# Altium schematic symbol library IC TTL 74xx.SchLib: 34 symbols
Pins are listed as number, name and electrical type; pins without a type are passive.

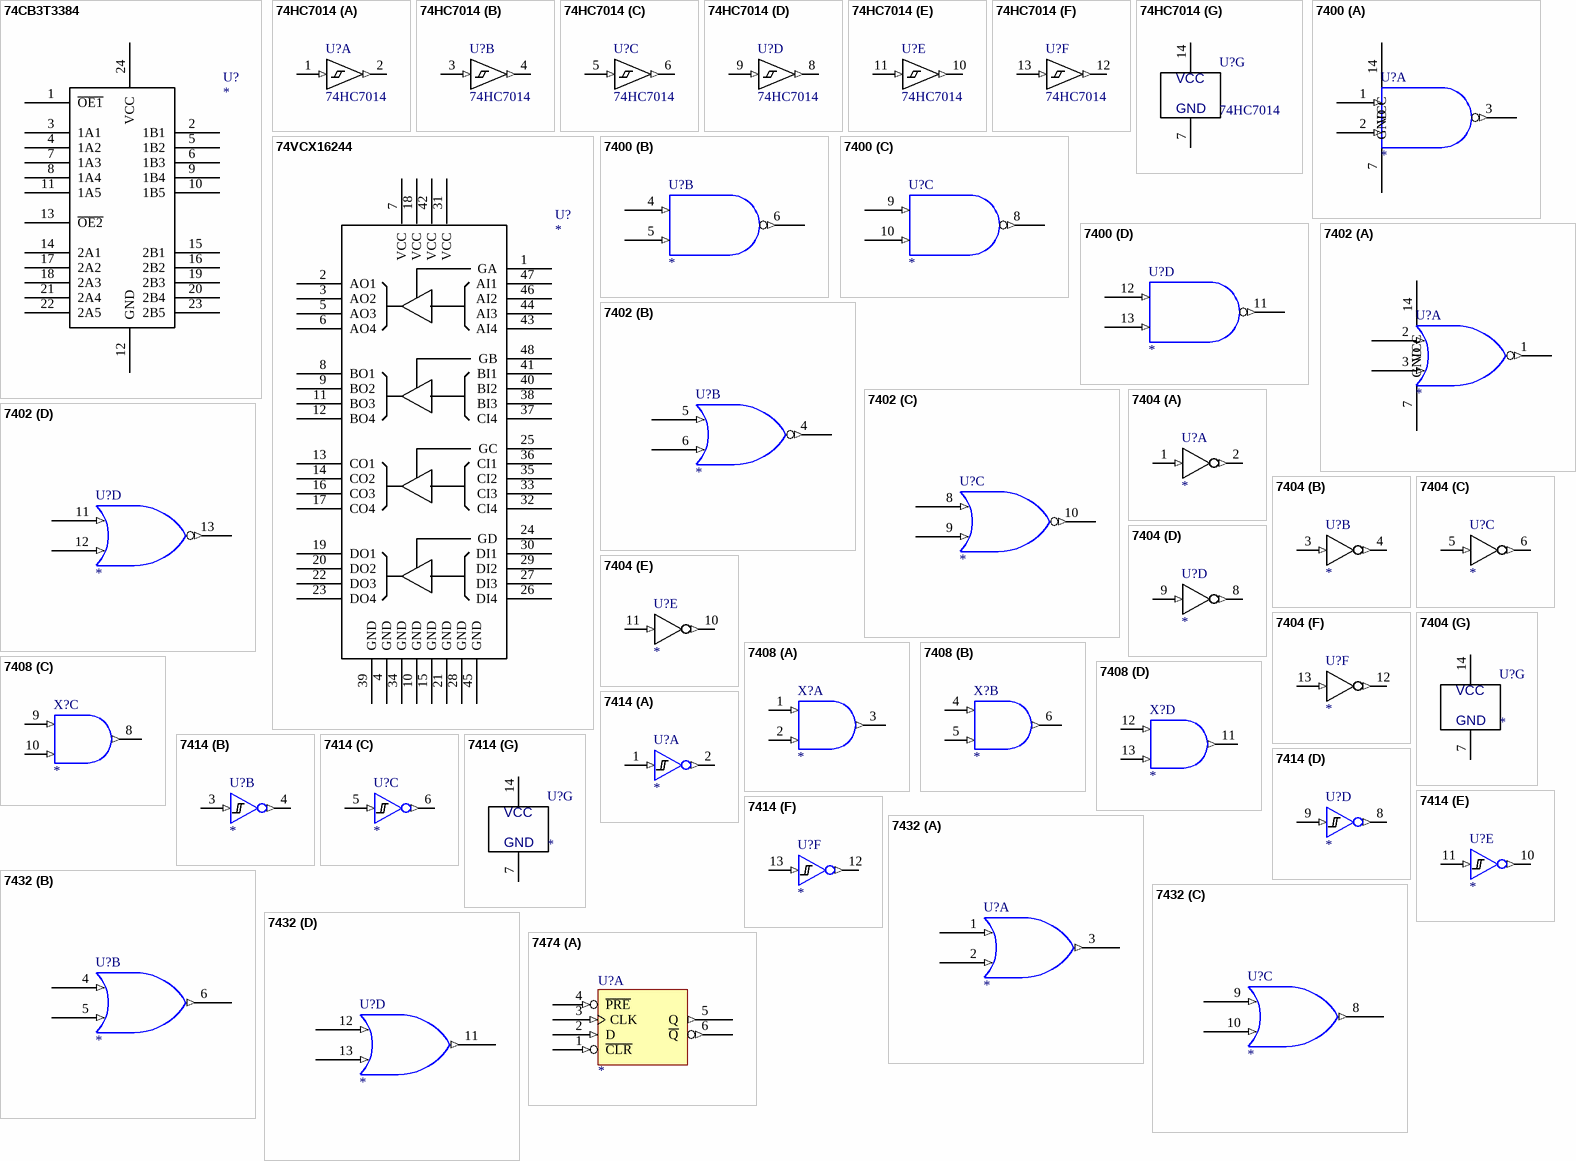
[diagram p0: symbols 74CB3T3384 to 7474]

## 74CB3T3384
designator U?
74CB3T3384 LEVEL SHIFTING BUFFER
footprint SO24W
pins: 1 ~{OE1}, 2 1B1, 3 1A1, 4 1A2, 5 1B2, 6 1B3, 7 1A3, 8 1A4, 9 1B4, 10 1B5, 11 1A5, 12 GND, 13 ~{OE2}, 14 2A1, 15 2B1, 16 2B2, 17 2A2, 18 2A3, 19 2B3, 20 2B4, 21 2A4, 22 2A5, 23 2B5, 24 VCC

## 74HC7014
designator U?
IC, Hex Schmitttrigger Buffer, SO-14
footprint SO14
part A pins: 1 A (in), 2 Y (out)
part B pins: 3 A (in), 4 Y (out)
part C pins: 5 A (in), 6 Y (out)
part D pins: 8 Y (out), 9 A (in)
part E pins: 10 Y (out), 11 A (in)
part F pins: 12 Y (out), 13 A (in)
part G pins: 7 GND, 14 VCC

## 74VCX16244
designator U?
footprint TSSOP48
pins: 1 GA, 2 AO1, 3 AO2, 4 GND, 5 AO3, 6 AO4, 7 VCC, 8 BO1, 9 BO2, 10 GND, 11 BO3, 12 BO4, 13 CO1, 14 CO2, 15 GND, 16 CO3, 17 CO4, 18 VCC, 19 DO1, 20 DO2, 21 GND, 22 DO3, 23 DO4, 24 GD, 25 GC, 26 DI4, 27 DI3, 28 GND, 29 DI2, 30 DI1, 31 VCC, 32 CI4, 33 CI3, 34 GND, 35 CI2, 36 CI1, 37 CI4, 38 BI3, 39 GND, 40 BI2, 41 BI1, 42 VCC, 43 AI4, 44 AI3, 45 GND, 46 AI2, 47 AI1, 48 GB

## 7400
designator U?
Quad 2-IN Pos Nand G
footprint SO14
part A pins: 1 (in), 2 (in), 3 (out), 7 GND (power), 14 VCC (power)
part B pins: 4 (in), 5 (in), 6 (out)
part C pins: 8 (out), 9 (in), 10 (in)
part D pins: 11 (out), 12 (in), 13 (in)

## 7402
designator U?
Quad 2-IN Pos Nor G
footprint SO14
part A pins: 1 (out), 2 (in), 3 (in), 7 GND (power), 14 VCC (power)
part B pins: 4 (out), 5 (in), 6 (in)
part C pins: 8 (in), 9 (in), 10 (out)
part D pins: 11 (in), 12 (in), 13 (out)

## 7404
designator U?
IC, M74HC04M, Hex Inverter, SO-14; Text Field1: ST; Text Field2: M74HC04M1R; Text Field3: Mouser; Text Field4: 511-M74HC04M; Text Field6: .22; Text Field5: SO-14; NI?: *; O?: *; Section:: *
footprint SO14
part A pins: 1 A (in), 2 Y (out)
part B pins: 3 A (in), 4 Y (out)
part C pins: 5 A (in), 6 Y (out)
part D pins: 8 Y (out), 9 A (in)
part E pins: 10 Y (out), 11 A (in)
part F pins: 12 Y (out), 13 A (in)
part G pins: 7 GND, 14 VCC

## 7408
designator X?
Quadruple 2-Input Positive-AND Gate
footprint SO14
part A pins: 1 A (in), 2 B (in), 3 Y (out), 7 GND (power) hidden to GND, 14 VCC (power) hidden to VCC
part B pins: 4 A (in), 5 B (in), 6 Y (out)
part C pins: 8 Y (out), 9 A (in), 10 B (in)
part D pins: 11 Y (out), 12 A (in), 13 B (in)

## 7414
designator U?
IC, M74HC04M, Hex Inverter, SO-14; Text Field1: ST; Text Field2: M74HC04M1R; Text Field3: Mouser; Text Field4: 511-M74HC04M; Text Field6: .22; Text Field5: SO-14; NI?: *; O?: *; Section:: *
footprint SO14
part A pins: 1 A (in), 2 Y (out)
part B pins: 3 A (in), 4 Y (out)
part C pins: 5 A (in), 6 Y (out)
part D pins: 8 Y (out), 9 A (in)
part E pins: 10 Y (out), 11 A (in)
part F pins: 12 Y (out), 13 A (in)
part G pins: 7 GND, 14 VCC

## 7432
designator U?
Quad 2-IN Pos Or G
footprint SO14
part A pins: 1 (in), 2 (in), 3 (out), 7 GND (power) hidden to GND, 14 VCC (power) hidden to VCC
part B pins: 4 (in), 5 (in), 6 (out)
part C pins: 8 (out), 9 (in), 10 (in)
part D pins: 11 (out), 12 (in), 13 (in)

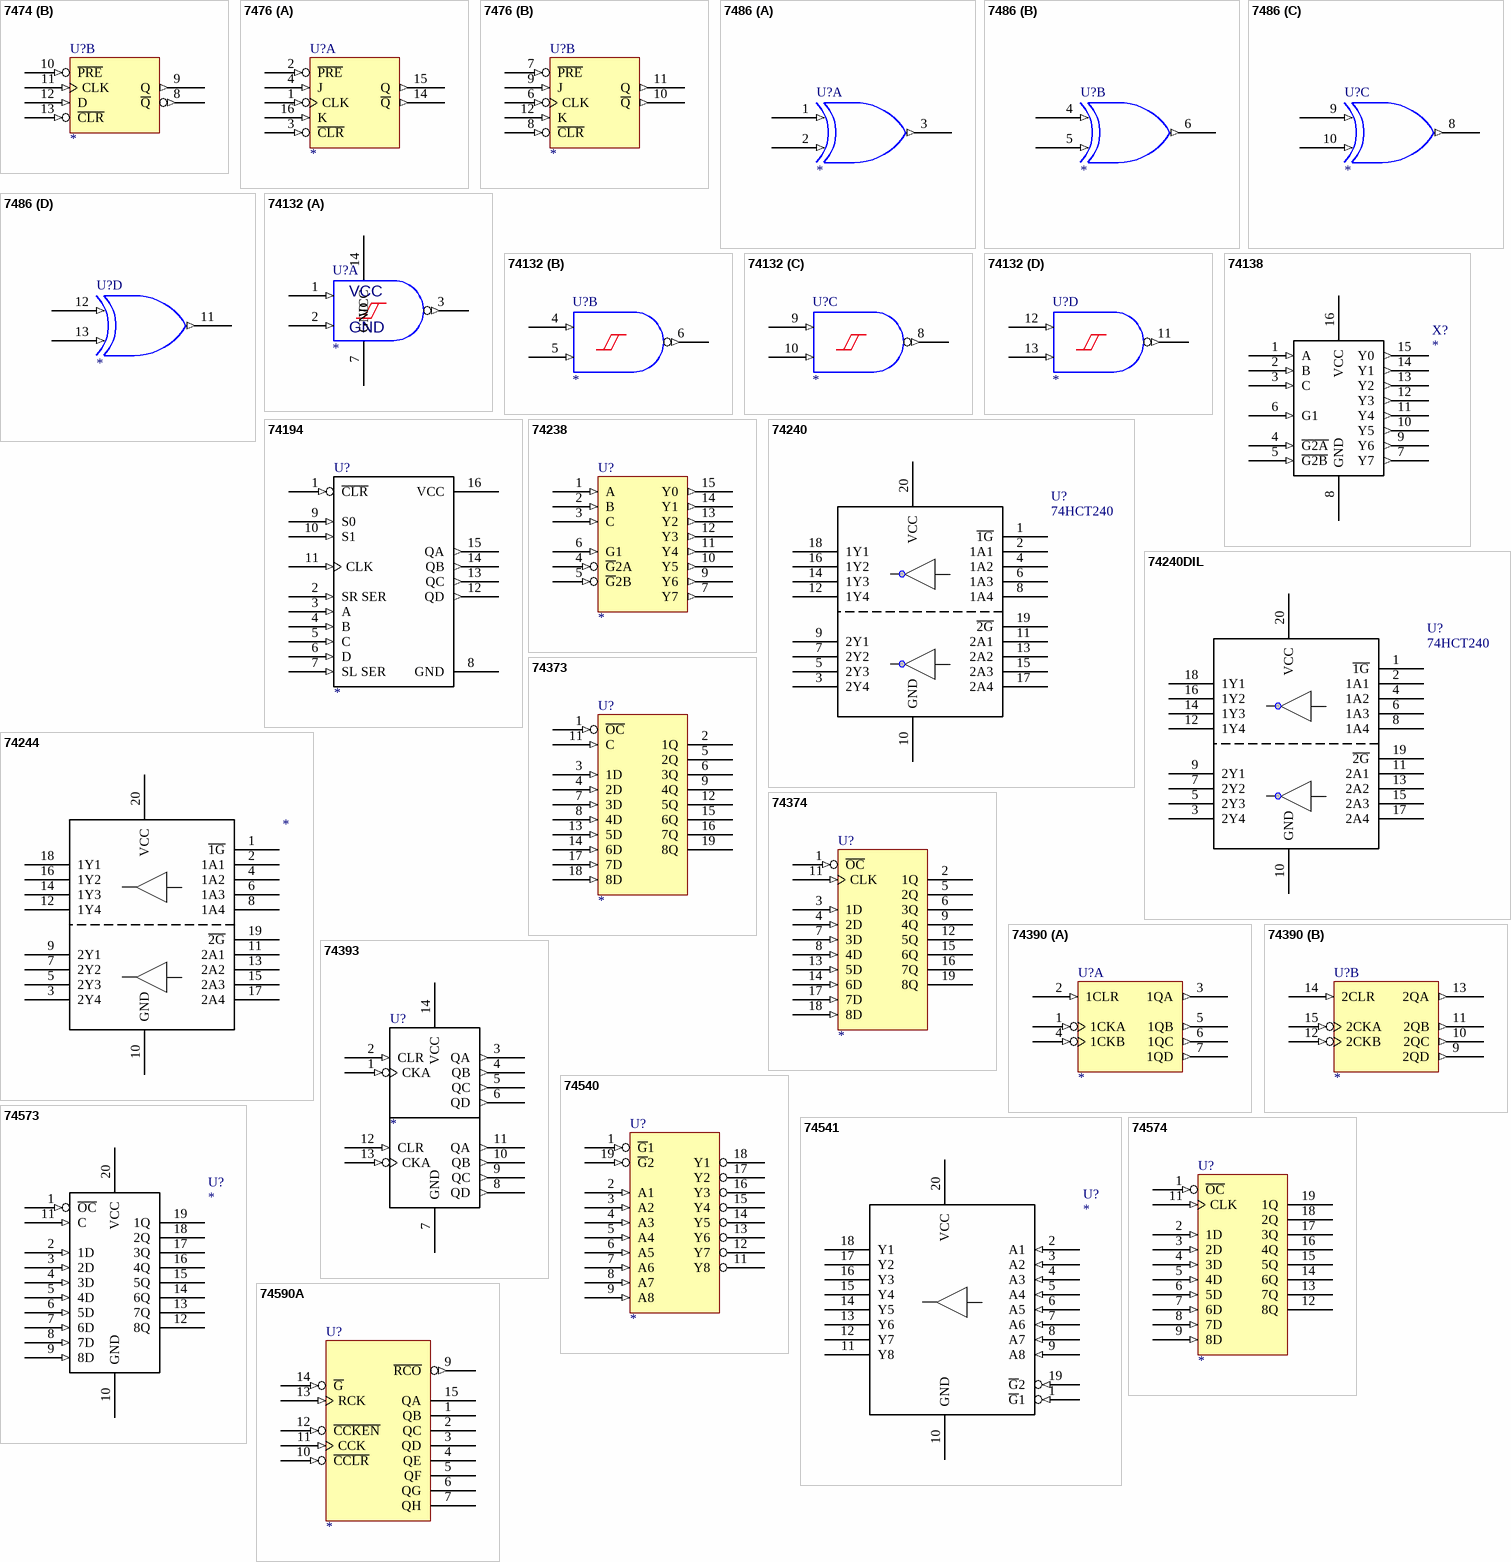
[diagram p1: symbols 7474 to 74590A]

## 7474
designator U?
DUAL D PET FF RS CR
footprint SO14
part A pins: 1 ~{CLR} (in), 2 D (in), 3 CLK (in), 4 ~{PRE} (in), 5 Q (out), 6 ~{Q} (out), 7 GND (power) hidden to GND, 14 VCC (power) hidden to VCC
part B pins: 8 ~{Q} (out), 9 Q (out), 10 ~{PRE} (in), 11 CLK (in), 12 D (in), 13 ~{CLR} (in)

## 7476
designator U?
DUAL J-K NET FF RS CR
footprint SO16
part A pins: 1 CLK (in), 2 ~{PRE} (in), 3 ~{CLR} (in), 4 J (in), 5 VCC (power) hidden to VCC, 13 GND (power) hidden to GND, 14 ~{Q} (out), 15 Q (out), 16 K (in)
part B pins: 6 CLK (in), 7 ~{PRE} (in), 8 ~{CLR} (in), 9 J (in), 10 ~{Q} (out), 11 Q (out), 12 K (in)

## 7486
designator U?
QUAD 2-IN XOR  G
footprint SO14
part A pins: 1 (in), 2 (in), 3 (out), 7 GND (power) hidden to GND, 14 VCC (power) hidden to VCC
part B pins: 4 (in), 5 (in), 6 (out)
part C pins: 8 (out), 9 (in), 10 (in)
part D pins: 11 (out), 12 (in), 13 (in)

## 74132
designator U?
QUAD 2-IN POS NAND SCH
footprint SO14
part A pins: 1 (in), 2 (in), 3 (out), 7 GND (power), 14 VCC (power)
part B pins: 4 (in), 5 (in), 6 (out)
part C pins: 8 (out), 9 (in), 10 (in)
part D pins: 11 (out), 12 (in), 13 (in)

## 74138
designator X?
3-Line to 8-Line Decoders/Demultiplexers
footprint SO16
pins: 1 A (in), 2 B (in), 3 C (in), 4 ~{G2A} (in), 5 ~{G2B} (in), 6 G1 (in), 7 Y7 (out), 8 GND (power), 9 Y6 (out), 10 Y5 (out), 11 Y4 (out), 12 Y3 (out), 13 Y2 (out), 14 Y1 (out), 15 Y0 (out), 16 VCC (power)

## 74194
designator U?
4-BIT BIDIRECTIONAL UNIVERSAL SFT REG
footprint SO16
pins: 1 ~{CLR} (in), 2 SR SER (in), 3 A (in), 4 B (in), 5 C (in), 6 D (in), 7 SL SER (in), 8 GND (power), 9 S0 (in), 10 S1 (in), 11 CLK (in), 12 QD (out), 13 QC (out), 14 QB (out), 15 QA (out), 16 VCC (power)
1 alternate drawing of the same symbol

## 74238
designator U?
3-8LINE DEC/DEMUL
footprint SO16
pins: 1 A (in), 2 B (in), 3 C (in), 4 ~{G}2A (in), 5 ~{G}2B (in), 6 G1 (in), 7 Y7 (out), 8 GND (power) hidden to GND, 9 Y6 (out), 10 Y5 (out), 11 Y4 (out), 12 Y3 (out), 13 Y2 (out), 14 Y1 (out), 15 Y0 (out), 16 VCC (power) hidden to VCC
1 alternate drawing of the same symbol

## 74240
designator U?, comment 74HCT240
74240
footprint SO20W
pins: 1 ~{1G}, 2 1A1, 3 2Y4, 4 1A2, 5 2Y3, 6 1A3, 7 2Y2, 8 1A4, 9 2Y1, 10 GND, 11 2A1, 12 1Y4, 13 2A2, 14 1Y3, 15 2A3, 16 1Y2, 17 2A4, 18 1Y1, 19 ~{2G}, 20 VCC

## 74240DIL
designator U?, comment 74HCT240
74240
footprint DIP20
pins: 1 ~{1G}, 2 1A1, 3 2Y4, 4 1A2, 5 2Y3, 6 1A3, 7 2Y2, 8 1A4, 9 2Y1, 10 GND, 11 2A1, 12 1Y4, 13 2A2, 14 1Y3, 15 2A3, 16 1Y2, 17 2A4, 18 1Y1, 19 ~{2G}, 20 VCC

## 74244
designator ?
footprint SO20W
pins: 1 ~{1G}, 2 1A1, 3 2Y4, 4 1A2, 5 2Y3, 6 1A3, 7 2Y2, 8 1A4, 9 2Y1, 10 GND, 11 2A1, 12 1Y4, 13 2A2, 14 1Y3, 15 2A3, 16 1Y2, 17 2A4, 18 1Y1, 19 ~{2G}, 20 VCC

## 74373
designator U?
OCTAL TRANSPARENT LCH
footprint SO20W
pins: 1 ~{OC} (in), 2 1Q (hiz), 3 1D (in), 4 2D (in), 5 2Q (hiz), 6 3Q (hiz), 7 3D (in), 8 4D (in), 9 4Q (hiz), 10 GND (power) hidden to GND, 11 C (in), 12 5Q (hiz), 13 5D (in), 14 6D (in), 15 6Q (hiz), 16 7Q (hiz), 17 7D (in), 18 8D (in), 19 8Q (hiz), 20 VCC (power) hidden to VCC
1 alternate drawing of the same symbol

## 74374
designator U?
OCTAL  D-TYPE EDGE-TRIGGERED FF 3SO
footprint SO20W
pins: 1 ~{OC} (in), 2 1Q (hiz), 3 1D (in), 4 2D (in), 5 2Q (hiz), 6 3Q (hiz), 7 3D (in), 8 4D (in), 9 4Q (hiz), 10 GND (power) hidden to GND, 11 CLK (in), 12 5Q (hiz), 13 5D (in), 14 6D (in), 15 6Q (hiz), 16 7Q (hiz), 17 7D (in), 18 8D (in), 19 8Q (hiz), 20 VCC (power) hidden to VCC
1 alternate drawing of the same symbol

## 74390
designator U?
DUAL 4-BIT AND BIN CNT
footprint SO16
part A pins: 1 1CKA (in), 2 1CLR (in), 3 1QA (out), 4 1CKB (in), 5 1QB (out), 6 1QC (out), 7 1QD (out), 8 GND (power) hidden to GND, 16 VCC (power) hidden to VCC
part B pins: 9 2QD (out), 10 2QC (out), 11 2QB (out), 12 2CKB (in), 13 2QA (out), 14 2CLR (in), 15 2CKA (in)

## 74393
designator U?
DUAL 4-BIT AND BIN CNT
footprint SO14
pins: 1 CKA (in), 2 CLR (in), 3 QA (out), 4 QB (out), 5 QC (out), 6 QD (out), 7 GND (power), 8 QD (out), 9 QC (out), 10 QB (out), 11 QA (out), 12 CLR (in), 13 CKA (in), 14 VCC (power)

## 74540
designator U?
OCTAL BUF AND LINE DRV 3SO
footprint SO20W
pins: 1 ~{G}1 (in), 2 A1 (in), 3 A2 (in), 4 A3 (in), 5 A4 (in), 6 A5 (in), 7 A6 (in), 8 A7 (in), 9 A8 (in), 10 GND (power) hidden to GND, 11 Y8 (hiz), 12 Y7 (hiz), 13 Y6 (hiz), 14 Y5 (hiz), 15 Y4 (hiz), 16 Y3 (hiz), 17 Y2 (hiz), 18 Y1 (hiz), 19 ~{G}2 (in), 20 VCC (power) hidden to VCC
1 alternate drawing of the same symbol

## 74541
designator U?
OCTAL BUF AND LINE DRV 3SO
footprint SO20W
pins: 1 ~{G}1 (in), 2 A1 (in), 3 A2 (in), 4 A3 (in), 5 A4 (in), 6 A5 (in), 7 A6 (in), 8 A7 (in), 9 A8 (in), 10 GND, 11 Y8 (hiz), 12 Y7 (hiz), 13 Y6 (hiz), 14 Y5 (hiz), 15 Y4 (hiz), 16 Y3 (hiz), 17 Y2 (hiz), 18 Y1 (hiz), 19 ~{G}2 (in), 20 VCC
1 alternate drawing of the same symbol

## 74573
designator U?
OCTAL D-TYPE TRANSPARENT LCH 3SO
footprint SO20W
pins: 1 ~{OC} (in), 2 1D (in), 3 2D (in), 4 3D (in), 5 4D (in), 6 5D (in), 7 6D (in), 8 7D (in), 9 8D (in), 10 GND (power), 11 C (in), 12 8Q (hiz), 13 7Q (hiz), 14 6Q (hiz), 15 5Q (hiz), 16 4Q (hiz), 17 3Q (hiz), 18 2Q (hiz), 19 1Q (hiz), 20 VCC (power)
1 alternate drawing of the same symbol

## 74574
designator U?
OCTAL D-TYPE EDGE-TRIGGERED FF 3SO
footprint SO20W
pins: 1 ~{OC} (in), 2 1D (in), 3 2D (in), 4 3D (in), 5 4D (in), 6 5D (in), 7 6D (in), 8 7D (in), 9 8D (in), 10 GND (power) hidden to GND, 11 CLK (in), 12 8Q (hiz), 13 7Q (hiz), 14 6Q (hiz), 15 5Q (hiz), 16 4Q (hiz), 17 3Q (hiz), 18 2Q (hiz), 19 1Q (hiz), 20 VCC (power) hidden to VCC
1 alternate drawing of the same symbol

## 74590A
designator U?
8-BIT BIN CNT WITH OUTPUT REGISTERS
footprint SO16W
pins: 1 QB (hiz), 2 QC (hiz), 3 QD (hiz), 4 QE (hiz), 5 QF (hiz), 6 QG (hiz), 7 QH (hiz), 8 GND (power) hidden to GND, 9 ~{RCO} (out), 10 ~{CCLR} (in), 11 CCK (in), 12 ~{CCKEN} (in), 13 RCK (in), 14 ~{G} (in), 15 QA (hiz), 16 VCC (power) hidden to VCC
1 alternate drawing of the same symbol

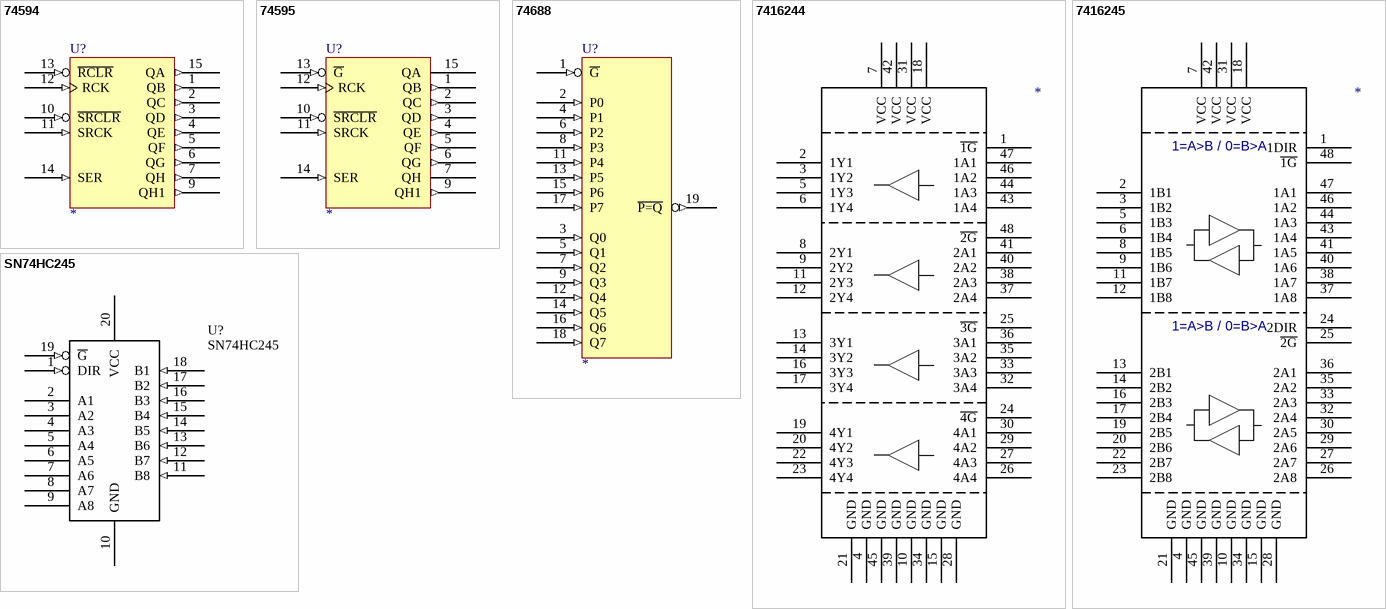
[diagram p2: symbols 74594 to SN74HC245]

## 74594
designator U?
8-BIT SFT REG WIRTH OUTPUT LCH
footprint SO16
pins: 1 QB (out), 2 QC (out), 3 QD (out), 4 QE (out), 5 QF (out), 6 QG (out), 7 QH (out), 8 GND (power) hidden to GND, 9 QH1 (out), 10 ~{SRCLR} (in), 11 SRCK (in), 12 RCK (in), 13 ~{RCLR} (in), 14 SER (in), 15 QA (out), 16 VCC (power) hidden to VCC
1 alternate drawing of the same symbol

## 74595
designator U?
8-BIT SFT REG WIRTH OUTPUT LCH
footprint SO16
pins: 1 QB (out), 2 QC (out), 3 QD (out), 4 QE (out), 5 QF (out), 6 QG (out), 7 QH (hiz), 8 GND (power) hidden to GND, 9 QH1 (out), 10 ~{SRCLR} (in), 11 SRCK (in), 12 RCK (in), 13 ~{G} (in), 14 SER (in), 15 QA (hiz), 16 VCC (power) hidden to VCC
1 alternate drawing of the same symbol

## 74688
designator U?
8-BIT IDENTITY COMPARATOR
footprint SO20W
pins: 1 ~{G} (in), 2 P0 (in), 3 Q0 (in), 4 P1 (in), 5 Q1 (in), 6 P2 (in), 7 Q2 (in), 8 P3 (in), 9 Q3 (in), 10 GND (power) hidden to GND, 11 P4 (in), 12 Q4 (in), 13 P5 (in), 14 Q5 (in), 15 P6 (in), 16 Q6 (in), 17 P7 (in), 18 Q7 (in), 19 ~{P=Q} (out), 20 VCC (power) hidden to VCC
1 alternate drawing of the same symbol

## 7416244
designator ?
pins: 1 ~{1G}, 2 1Y1, 3 1Y2, 4 GND, 5 1Y3, 6 1Y4, 7 VCC, 8 2Y1, 9 2Y2, 10 GND, 11 2Y3, 12 2Y4, 13 3Y1, 14 3Y2, 15 GND, 16 3Y3, 17 3Y4, 18 VCC, 19 4Y1, 20 4Y2, 21 GND, 22 4Y3, 23 4Y4, 24 ~{4G}, 25 ~{3G}, 26 4A4, 27 4A3, 28 GND, 29 4A2, 30 4A1, 31 VCC, 32 3A4, 33 3A3, 34 GND, 35 3A2, 36 3A1, 37 2A4, 38 2A3, 39 GND, 40 2A2, 41 2A1, 42 VCC, 43 1A4, 44 1A3, 45 GND, 46 1A2, 47 1A1, 48 ~{2G}

## 7416245
designator ?
pins: 1 1DIR, 2 1B1, 3 1B2, 4 GND, 5 1B3, 6 1B4, 7 VCC, 8 1B5, 9 1B6, 10 GND, 11 1B7, 12 1B8, 13 2B1, 14 2B2, 15 GND, 16 2B3, 17 2B4, 18 VCC, 19 2B5, 20 2B6, 21 GND, 22 2B7, 23 2B8, 24 2DIR, 25 ~{2G}, 26 2A8, 27 2A7, 28 GND, 29 2A6, 30 2A5, 31 VCC, 32 2A4, 33 2A3, 34 GND, 35 2A2, 36 2A1, 37 1A8, 38 1A7, 39 GND, 40 1A6, 41 1A5, 42 VCC, 43 1A4, 44 1A3, 45 GND, 46 1A2, 47 1A1, 48 ~{1G}
text: 1=A>B / 0=B>A

## SN74HC245
designator U?
QUAD BUS TRANSCEIVER 3SO
footprint SO20W
footprint SO20
pins: 1 DIR (in), 2 A1 (hiz), 3 A2 (hiz), 4 A3 (hiz), 5 A4 (hiz), 6 A5 (hiz), 7 A6 (hiz), 8 A7 (hiz), 9 A8 (hiz), 10 GND (power), 11 B8 (in), 12 B7 (in), 13 B6 (in), 14 B5 (in), 15 B4 (in), 16 B3 (in), 17 B2 (in), 18 B1 (in), 19 ~{G} (in), 20 VCC (power)
1 alternate drawing of the same symbol